# EAGLE library part AT86RF231(RADIO) (library group10)
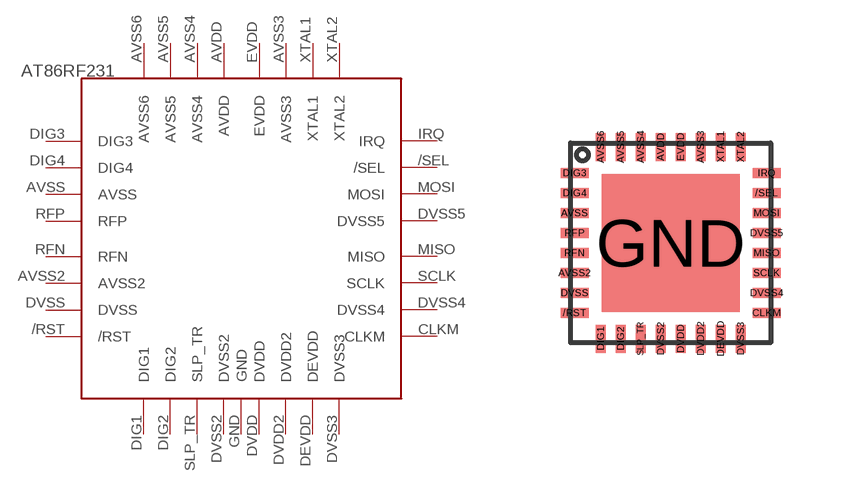
[diagram p2: symbol with the pads of 32QN2(RADIO); footprint 32QN2(RADIO)]

Designator prefix -

## AT86RF231(RADIO)AT86RF231  [32QN2(RADIO)]
/RST  /RST
/SEL  /SEL
AVDD  AVDD
AVSS  AVSS
AVSS2  AVSS2
AVSS3  AVSS3
AVSS4  AVSS4
AVSS5  AVSS5
AVSS6  AVSS6
CLKM  CLKM
DEVDD  DEVDD
DIG1  DIG1
DIG2  DIG2
DIG3  DIG3
DIG4  DIG4
DVDD  DVDD
DVDD2  DVDD2
DVSS  DVSS
DVSS2  DVSS2
DVSS3  DVSS3
DVSS4  DVSS4
DVSS5  DVSS5
EVDD  EVDD
GND  GND
IRQ  IRQ
MISO  MISO
MOSI  MOSI
RFN  RFN
RFP  RFP
SCLK  SCLK
SLP_TR  SLP_TR
XTAL1  XTAL1
XTAL2  XTAL2

## Footprint 32QN2(RADIO) (pad centres in mm)
smd 0.7 x 0.25: /RST -2.4,-1.75; /SEL 2.4,1.25; AVSS -2.4,0.75; AVSS2 -2.4,-0.75; CLKM 2.4,-1.75; DIG3 -2.4,1.75; DIG4 -2.4,1.25; DVSS -2.4,-1.25; DVSS4 2.4,-1.25; DVSS5 2.4,0.25; IRQ 2.4,1.75; MISO 2.4,-0.25; MOSI 2.4,0.75; RFN -2.4,-0.25; RFP -2.4,0.25; SCLK 2.4,-0.75
smd 0.25 x 0.7: AVDD -0.25,2.4; AVSS3 0.75,2.4; AVSS4 -0.75,2.4; AVSS5 -1.25,2.4; AVSS6 -1.75,2.4; DEVDD 1.25,-2.4; DIG1 -1.75,-2.4; DIG2 -1.25,-2.4; DVDD 0.25,-2.4; DVDD2 0.75,-2.4; DVSS2 -0.25,-2.4; DVSS3 1.75,-2.4; EVDD 0.25,2.4; SLP_TR -0.75,-2.4; XTAL1 1.25,2.4; XTAL2 1.75,2.4
smd 3.45 x 3.45: GND 0,0